# Altium schematic symbol library C3M0022120D.SchLib: 1 symbol
Pins are listed as number, name and electrical type; pins without a type are passive.

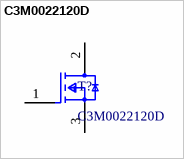
[diagram p0: symbol C3M0022120D]

## C3M0022120D
designator T?
footprint TO-247-3(Infineon)
footprint TO-247-3(BEND)
footprint TO-247
footprint TO-247-3(BEND2)
pins: 1 G, 2 D, 3 S